# Altium integrated library Transistor.IntLib: 3457 symbols (part 61 of 78)
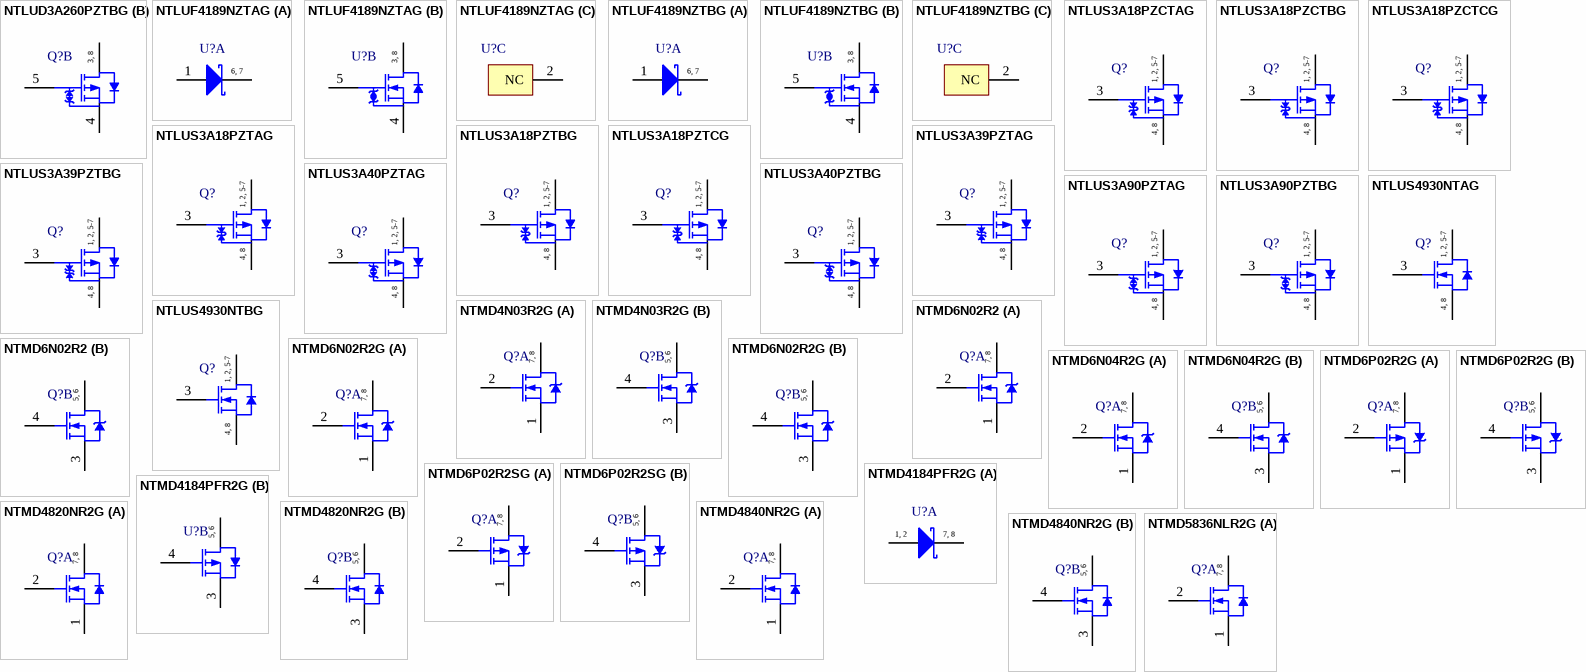
[diagram p154: symbols NTLUD3A260PZTBG to NTMD5836NLR2G]

## NTLUS3A90PZTAG
designator Q?
Power MOSFET, -20 V, -5.0 A, Cool Single P-Channel, ESD, 6-Pin UDFN, Pb-Free, Tape and Reel; Manufacturer: On Semiconductor; PartNumber: NTLUS3A90PZTAG; Channel Polarity: P Channel; Ciss Typ (pF): 950; Coss Typ (pF): 90; Crss Typ (pF): 85; ID Max (A): 5; Qrr Typ (nC): 6; V(BR)DSS Min (V): 20; VGS Max (V): 8; VGS(th) Max (V): 1; DatasheetVersion: Rev. 2; PackageVersion: Rev. O, 10/2008; PackageReference: UDFN-6-517AU-01; PackageDescription: 6-Pin Small Outline No-Lead, Body 1.6 x 1.6 mm, Pitch 0.5 mm; Configuration: Single; Package Type: UDFN-6; Packing: Tape and Reel; RoHS: Pb-Free; Mounting Technology: Surface Mount; ComponentLink1Description: Manufacturer URL; ComponentLink1URL: http://www.onsemi.com/; ComponentLink2Description: Datasheet; ComponentLink2URL: http://www.onsemi.com/pub_link/Collateral/NTLUS3A90PZ-D.PDF; ComponentLink3Description: Package Specification; ComponentLink3URL: http://www.onsemi.com/pub_link/Collateral/517AU.PDF
footprint ONSC-UDFN-6-517AU-01_V (SON, 6-Leads, Body 1.6x1.6mm, Pitch 0.5mm)
pins: 1 D, 2 D, 3 G, 4 S, 5 D, 6 D, 7 D, 8 S
text: 1, 2, 5-7; 4, 8

## NTLUS3A90PZTBG
designator Q?
Power MOSFET, -20 V, -5.0 A, Cool Single P-Channel, ESD, 6-Pin UDFN, Pb-Free, Tape and Reel; Manufacturer: On Semiconductor; PartNumber: NTLUS3A90PZTBG; Channel Polarity: P Channel; Ciss Typ (pF): 950; Coss Typ (pF): 90; Crss Typ (pF): 85; ID Max (A): 5; Qrr Typ (nC): 6; V(BR)DSS Min (V): 20; VGS Max (V): 8; VGS(th) Max (V): 1; DatasheetVersion: Rev. 2; PackageVersion: Rev. O, 10/2008; PackageReference: UDFN-6-517AU-01; PackageDescription: 6-Pin Small Outline No-Lead, Body 1.6 x 1.6 mm, Pitch 0.5 mm; Configuration: Single; Package Type: UDFN-6; Packing: Tape and Reel; RoHS: Pb-Free; Mounting Technology: Surface Mount; ComponentLink1Description: Manufacturer URL; ComponentLink1URL: http://www.onsemi.com/; ComponentLink2Description: Datasheet; ComponentLink2URL: http://www.onsemi.com/pub_link/Collateral/NTLUS3A90PZ-D.PDF; ComponentLink3Description: Package Specification; ComponentLink3URL: http://www.onsemi.com/pub_link/Collateral/517AU.PDF
footprint ONSC-UDFN-6-517AU-01_V (SON, 6-Leads, Body 1.6x1.6mm, Pitch 0.5mm)
pins: 1 D, 2 D, 3 G, 4 S, 5 D, 6 D, 7 D, 8 S
text: 1, 2, 5-7; 4, 8

## NTLUS4930NTAG
designator Q?
Power MOSFET, 30 V, 6.1 A, Single N-Channel, 6-Pin UDFN, Pb-Free, Tape and Reel; Manufacturer: On Semiconductor; PartNumber: NTLUS4930NTAG; Channel Polarity: N Channel; Ciss Typ (pF): 476; Coss Typ (pF): 197; Crss Typ (pF): 100; Qrr Typ (nC): 5.4; V(BR)DSS Min (V): 30; VGS Max (V): 20; VGS(th) Max (V): 2.2; DatasheetVersion: Rev. 1; PackageVersion: Rev. A, 02/2010; PackageReference: UDFN-6-517BG-01; PackageDescription: 6-Pin Small Outline No-Lead, Body 2 x 2 mm, Pitch 0.65 mm; Configuration: Single; Package Type: UDFN-6; Packing: Tape and Reel; RoHS: Pb-Free; Mounting Technology: Surface Mount; ComponentLink1Description: Manufacturer URL; ComponentLink1URL: http://www.onsemi.com/; ComponentLink2Description: Datasheet; ComponentLink2URL: http://www.onsemi.com/pub_link/Collateral/NTLUS4930N-D.PDF; ComponentLink3Description: Package Specification; ComponentLink3URL: http://www.onsemi.com/pub_link/Collateral/517BG.PDF
footprint ONSC-UDFN-6-517BG-01_V (SON, 6-Leads, Body 2x2mm, Pitch 0.65mm)
pins: 1 D, 2 D, 3 G, 4 S, 5 D, 6 D, 7 D, 8 S
text: 1, 2, 5-7; 4, 8

## NTLUS4930NTBG
designator Q?
Power MOSFET, 30 V, 6.1 A, Single N-Channel, 6-Pin UDFN, Pb-Free, Tape and Reel; Manufacturer: On Semiconductor; PartNumber: NTLUS4930NTBG; Channel Polarity: N Channel; Ciss Typ (pF): 476; Coss Typ (pF): 197; Crss Typ (pF): 100; Qrr Typ (nC): 5.4; V(BR)DSS Min (V): 30; VGS Max (V): 20; VGS(th) Max (V): 2.2; DatasheetVersion: Rev. 1; PackageVersion: Rev. A, 02/2010; PackageReference: UDFN-6-517BG-01; PackageDescription: 6-Pin Small Outline No-Lead, Body 2 x 2 mm, Pitch 0.65 mm; Configuration: Single; Package Type: UDFN-6; Packing: Tape and Reel; RoHS: Pb-Free; Mounting Technology: Surface Mount; ComponentLink1Description: Manufacturer URL; ComponentLink1URL: http://www.onsemi.com/; ComponentLink2Description: Datasheet; ComponentLink2URL: http://www.onsemi.com/pub_link/Collateral/NTLUS4930N-D.PDF; ComponentLink3Description: Package Specification; ComponentLink3URL: http://www.onsemi.com/pub_link/Collateral/517BG.PDF
footprint ONSC-UDFN-6-517BG-01_V (SON, 6-Leads, Body 2x2mm, Pitch 0.65mm)
pins: 1 D, 2 D, 3 G, 4 S, 5 D, 6 D, 7 D, 8 S
text: 1, 2, 5-7; 4, 8

## NTMD4N03R2G
designator Q?
Power MOSFET, 4 A, 30 V, N-Channel Dual, 8-Pin SOIC, Pb-Free, Tape and Reel; Manufacturer: On Semiconductor; PartNumber: NTMD4N03R2G; Channel Polarity: N Channel; Ciss Typ (pF): 285; Coss Typ (pF): 95; Crss Typ (pF): 35; ID Max (A): 4; PD Max (W): 2; Qrr Typ (nC): 8; V(BR)DSS Min (V): 30; VGS Max (V): 20; VGS(th) Max (V): 3; DatasheetVersion: Rev. 4; PackageVersion: Rev. AK, 02/2011; PackageReference: SOIC-8-751-07; PackageDescription: 8-Pin Small Outline Integrated Circuit, Body 4.9 x 3.9 mm, Pitch 1.27 mm; Configuration: Dual; Package Type: SOIC-8; Packing: Tape and Reel; RoHS: Pb-Free; Mounting Technology: Surface Mount; ComponentLink1Description: Manufacturer URL; ComponentLink1URL: http://www.onsemi.com/; ComponentLink2Description: Datasheet; ComponentLink2URL: http://www.onsemi.com/pub_link/Collateral/NTMD4N03R2-D.PDF; ComponentLink3Description: Package Specification; ComponentLink3URL: http://www.onsemi.com/pub_link/Collateral/751-07.PDF
footprint ONSC-SOIC-8-751-07_V (SOIC, 8-Leads, Body 4.9x3.9mm, Pitch 1.27mm)
part A pins: 1 S1, 2 G1, 7 D1, 8 D1
part B pins: 3 S2, 4 G2, 5 D2, 6 D2
part A text: 7, 8
part B text: 5, 6

## NTMD6N02R2
designator Q?
Power MOSFET, 6 A, 20 V, Dual N-Channel Enhancement Mode, 8-Pin SOIC, Pb-Free, Tape and Reel; Manufacturer: On Semiconductor; PartNumber: NTMD6N02R2; Channel Polarity: N Channel; Ciss Typ (pF): 785; Coss Typ (pF): 260; Crss Typ (pF): 75; ID Max (A): 6; Qrr Typ (nC): 20; VGS Max (V): 12; VGS(th) Max (V): 1.2; DatasheetVersion: Rev. 3; PackageVersion: Rev. AK, 02/2011; PackageReference: SOIC-8-751-07; PackageDescription: 8-Pin Small Outline Integrated Circuit, Body 4.9 x 3.9 mm, Pitch 1.27 mm; Configuration: Dual; Package Type: SOIC-8; Packing: Tape and Reel; RoHS: Pb-Free; V(BR)DSS Min (V): 20; Mounting Technology: Surface Mount; ComponentLink1Description: Manufacturer URL; ComponentLink1URL: http://www.onsemi.com/; ComponentLink2Description: Datasheet; ComponentLink2URL: http://www.onsemi.com/pub_link/Collateral/NTMD6N02R2-D.PDF; ComponentLink3Description: Package Specification; ComponentLink3URL: http://www.onsemi.com/pub_link/Collateral/751-07.PDF
footprint ONSC-SOIC-8-751-07_V (SOIC, 8-Leads, Body 4.9x3.9mm, Pitch 1.27mm)
part A pins: 1 S1, 2 G1, 7 D1, 8 D1
part B pins: 3 S2, 4 G2, 5 D2, 6 D2
part A text: 7, 8
part B text: 5, 6

## NTMD6N02R2G
designator Q?
Power MOSFET, 6 A, 20 V, Dual N-Channel Enhancement Mode, 8-Pin SOIC, Pb-Free, Tape and Reel; Manufacturer: On Semiconductor; PartNumber: NTMD6N02R2G; Channel Polarity: N Channel; Ciss Typ (pF): 785; Coss Typ (pF): 260; Crss Typ (pF): 75; ID Max (A): 6; Qrr Typ (nC): 20; VGS Max (V): 12; VGS(th) Max (V): 1.2; DatasheetVersion: Rev. 3; PackageVersion: Rev. AK, 02/2011; PackageReference: SOIC-8-751-07; PackageDescription: 8-Pin Small Outline Integrated Circuit, Body 4.9 x 3.9 mm, Pitch 1.27 mm; Configuration: Dual; Package Type: SOIC-8; Packing: Tape and Reel; RoHS: Pb-Free; V(BR)DSS Min (V): 20; Mounting Technology: Surface Mount; ComponentLink1Description: Manufacturer URL; ComponentLink1URL: http://www.onsemi.com/; ComponentLink2Description: Datasheet; ComponentLink2URL: http://www.onsemi.com/pub_link/Collateral/NTMD6N02R2-D.PDF; ComponentLink3Description: Package Specification; ComponentLink3URL: http://www.onsemi.com/pub_link/Collateral/751-07.PDF
footprint ONSC-SOIC-8-751-07_V (SOIC, 8-Leads, Body 4.9x3.9mm, Pitch 1.27mm)
part A pins: 1 S1, 2 G1, 7 D1, 8 D1
part B pins: 3 S2, 4 G2, 5 D2, 6 D2
part A text: 7, 8
part B text: 5, 6

## NTMD6N04R2G
designator Q?
Power MOSFET, 40 V, 5.8 A, Dual N-Channel, 8-Pin SOIC, Pb-Free, Tape and Reel; Manufacturer: On Semiconductor; PartNumber: NTMD6N04R2G; Channel Polarity: N Channel; Ciss Typ (pF): 723; Coss Typ (pF): 156; Crss Typ (pF): 53; ID Max (A): 5.8; Qrr Typ (nC): 20; V(BR)DSS Min (V): 40; VGS(th) Max (V): 3; DatasheetVersion: Rev. 2; PackageVersion: Rev. AK, 02/2011; PackageReference: SOIC-8-751-07; PackageDescription: 8-Pin Small Outline Integrated Circuit, Body 4.9 x 3.9 mm, Pitch 1.27 mm; Configuration: Dual; Package Type: SOIC-8; Packing: Tape and Reel; RoHS: Pb-Free; VGS Max (V): 20; Mounting Technology: Surface Mount; ComponentLink1Description: Manufacturer URL; ComponentLink1URL: http://www.onsemi.com/; ComponentLink2Description: Datasheet; ComponentLink2URL: http://www.onsemi.com/pub_link/Collateral/NTMD6N04R2-D.PDF; ComponentLink3Description: Package Specification; ComponentLink3URL: http://www.onsemi.com/pub_link/Collateral/751-07.PDF
footprint ONSC-SOIC-8-751-07_V (SOIC, 8-Leads, Body 4.9x3.9mm, Pitch 1.27mm)
part A pins: 1 S1, 2 G1, 7 D1, 8 D1
part B pins: 3 S2, 4 G2, 5 D2, 6 D2
part A text: 7, 8
part B text: 5, 6

## NTMD6P02R2G
designator Q?
Power MOSFET, 6 A, 20 V, P-Channel SOIC-8, Dual, 8-Pin SOIC, Pb-Free, Tape and Reel; Manufacturer: On Semiconductor; PartNumber: NTMD6P02R2G; Channel Polarity: P Channel; Ciss Typ (pF): 1380; Coss Typ (pF): 515; Crss Typ (pF): 250; Qrr Typ (nC): 40; V(BR)DSS Min (V): 20; VGS Max (V): 12; VGS(th) Max (V): 1.2; DatasheetVersion: Rev. 4; PackageVersion: Rev. AK, 02/2011; PackageReference: SOIC-8-751-07; PackageDescription: 8-Pin Small Outline Integrated Circuit, Body 4.9 x 3.9 mm, Pitch 1.27 mm; Configuration: Dual; Package Type: SOIC-8; Packing: Tape and Reel; RoHS: Pb-Free; Mounting Technology: Surface Mount; ComponentLink1Description: Manufacturer URL; ComponentLink1URL: http://www.onsemi.com/; ComponentLink2Description: Datasheet; ComponentLink2URL: http://www.onsemi.com/pub_link/Collateral/NTMD6P02R2-D.PDF; ComponentLink3Description: Package Specification; ComponentLink3URL: http://www.onsemi.com/pub_link/Collateral/751-07.PDF
footprint ONSC-SOIC-8-751-07_V (SOIC, 8-Leads, Body 4.9x3.9mm, Pitch 1.27mm)
part A pins: 1 S1, 2 G1, 7 D1, 8 D1
part B pins: 3 S2, 4 G2, 5 D2, 6 D2
part A text: 7, 8
part B text: 5, 6

## NTMD6P02R2SG
designator Q?
Power MOSFET, 6 A, 20 V, P-Channel SOIC-8, Dual, 8-Pin SOIC, Pb-Free, Tape and Reel; Manufacturer: On Semiconductor; PartNumber: NTMD6P02R2SG; Channel Polarity: P Channel; Ciss Typ (pF): 1380; Coss Typ (pF): 515; Crss Typ (pF): 250; Qrr Typ (nC): 40; V(BR)DSS Min (V): 20; VGS Max (V): 12; VGS(th) Max (V): 1.2; DatasheetVersion: Rev. 4; PackageVersion: Rev. AK, 02/2011; PackageReference: SOIC-8-751-07; PackageDescription: 8-Pin Small Outline Integrated Circuit, Body 4.9 x 3.9 mm, Pitch 1.27 mm; Configuration: Dual; Package Type: SOIC-8; Packing: Tape and Reel; RoHS: Pb-Free; Mounting Technology: Surface Mount; ComponentLink1Description: Manufacturer URL; ComponentLink1URL: http://www.onsemi.com/; ComponentLink2Description: Datasheet; ComponentLink2URL: http://www.onsemi.com/pub_link/Collateral/NTMD6P02R2-D.PDF; ComponentLink3Description: Package Specification; ComponentLink3URL: http://www.onsemi.com/pub_link/Collateral/751-07.PDF
footprint ONSC-SOIC-8-751-07_V (SOIC, 8-Leads, Body 4.9x3.9mm, Pitch 1.27mm)
part A pins: 1 S1, 2 G1, 7 D1, 8 D1
part B pins: 3 S2, 4 G2, 5 D2, 6 D2
part A text: 7, 8
part B text: 5, 6

## NTMD4184PFR2G
designator U?
Power MOSFET and Schottky Diode, -30 V, -4 A, Single P-Channel with 20 V, 2.2 A, 8-Pin SOIC, Pb-Free, Tape and Reel; Manufacturer: On Semiconductor; PartNumber: NTMD4184PFR2G; Channel Polarity: P Channel; Ciss Typ (pF): 280; Configuration: with Schottky Diode; Coss Typ (pF): 80; Crss Typ (pF): 52; ID Max (A): 4; Qrr Typ (nC): 7.4; V(BR)DSS Min (V): 30; VGS Max (V): 20; VGS(th) Max (V): 3; DatasheetVersion: Rev. 0; PackageVersion: Rev. AK, 02/2011; PackageReference: SOIC-8-751-07; PackageDescription: 8-Pin Small Outline Integrated Circuit, Body 4.9 x 3.9 mm, Pitch 1.27 mm; Package Type: SOIC-8; Packing: Tape and Reel; RoHS: Pb-Free; Mounting Technology: Surface Mount; ComponentLink1Description: Manufacturer URL; ComponentLink1URL: http://www.onsemi.com/; ComponentLink2Description: Datasheet; ComponentLink2URL: http://www.onsemi.com/pub_link/Collateral/NTMD4184PF-D.PDF; ComponentLink3Description: Package Specification; ComponentLink3URL: http://www.onsemi.com/pub_link/Collateral/751-07.PDF
footprint ONSC-SOIC-8-751-07_V (SOIC, 8-Leads, Body 4.9x3.9mm, Pitch 1.27mm)
part A pins: 1 A, 2 A, 7 K, 8 K
part B pins: 3 S, 4 G, 5 D, 6 D
part A text: 1, 2; 7, 8
part B text: 5, 6

## NTMD4820NR2G
designator Q?
Power MOSFET, 30 V, 8 A, Dual N-Channel, 8-Pin SOIC, Pb-Free, Tape and Reel; Manufacturer: On Semiconductor; PartNumber: NTMD4820NR2G; Channel Polarity: N Channel; Ciss Typ (pF): 940; Coss Typ (pF): 225; Crss Typ (pF): 125; ID Max (A): 8; V(BR)DSS Min (V): 30; VGS Max (V): 20; VGS(th) Max (V): 3; DatasheetVersion: Rev. 2; PackageVersion: Rev. AK, 02/2011; PackageReference: SOIC-8-751-07; PackageDescription: 8-Pin Small Outline Integrated Circuit, Body 4.9 x 3.9 mm, Pitch 1.27 mm; Configuration: Dual; Package Type: SOIC-8; Packing: Tape and Reel; Qrr Typ (nC): 8; RoHS: Pb-Free; Mounting Technology: Surface Mount; ComponentLink1Description: Manufacturer URL; ComponentLink1URL: http://www.onsemi.com/; ComponentLink2Description: Datasheet; ComponentLink2URL: http://www.onsemi.com/pub_link/Collateral/NTMD4820N-D.PDF; ComponentLink3Description: Package Specification; ComponentLink3URL: http://www.onsemi.com/pub_link/Collateral/751-07.PDF
footprint ONSC-SOIC-8-751-07_V (SOIC, 8-Leads, Body 4.9x3.9mm, Pitch 1.27mm)
part A pins: 1 S1, 2 G1, 7 D1, 8 D1
part B pins: 3 S2, 4 G2, 5 D2, 6 D2
part A text: 7, 8
part B text: 5, 6

## NTMD4840NR2G
designator Q?
Power MOSFET, 30 V, 7.5 A, Dual N-Channel, 8-Pin SOIC, Pb-Free, Tape and Reel; Manufacturer: On Semiconductor; PartNumber: NTMD4840NR2G; Channel Polarity: N Channel; Ciss Typ (pF): 520; Coss Typ (pF): 140; Crss Typ (pF): 70; ID Max (A): 7.5; Qrr Typ (nC): 6; V(BR)DSS Min (V): 30; VGS Max (V): 20; VGS(th) Max (V): 3; DatasheetVersion: Rev. 1; PackageVersion: Rev. AK, 02/2011; PackageReference: SOIC-8-751-07; PackageDescription: 8-Pin Small Outline Integrated Circuit, Body 4.9 x 3.9 mm, Pitch 1.27 mm; Configuration: Dual; Package Type: SOIC-8; Packing: Tape and Reel; RoHS: Pb-Free; Mounting Technology: Surface Mount; ComponentLink1Description: Manufacturer URL; ComponentLink1URL: http://www.onsemi.com/; ComponentLink2Description: Datasheet; ComponentLink2URL: http://www.onsemi.com/pub_link/Collateral/NTMD4840N-D.PDF; ComponentLink3Description: Package Specification; ComponentLink3URL: http://www.onsemi.com/pub_link/Collateral/751-07.PDF
footprint ONSC-SOIC-8-751-07_V (SOIC, 8-Leads, Body 4.9x3.9mm, Pitch 1.27mm)
part A pins: 1 S1, 2 G1, 7 D1, 8 D1
part B pins: 3 S2, 4 G2, 5 D2, 6 D2
part A text: 7, 8
part B text: 5, 6

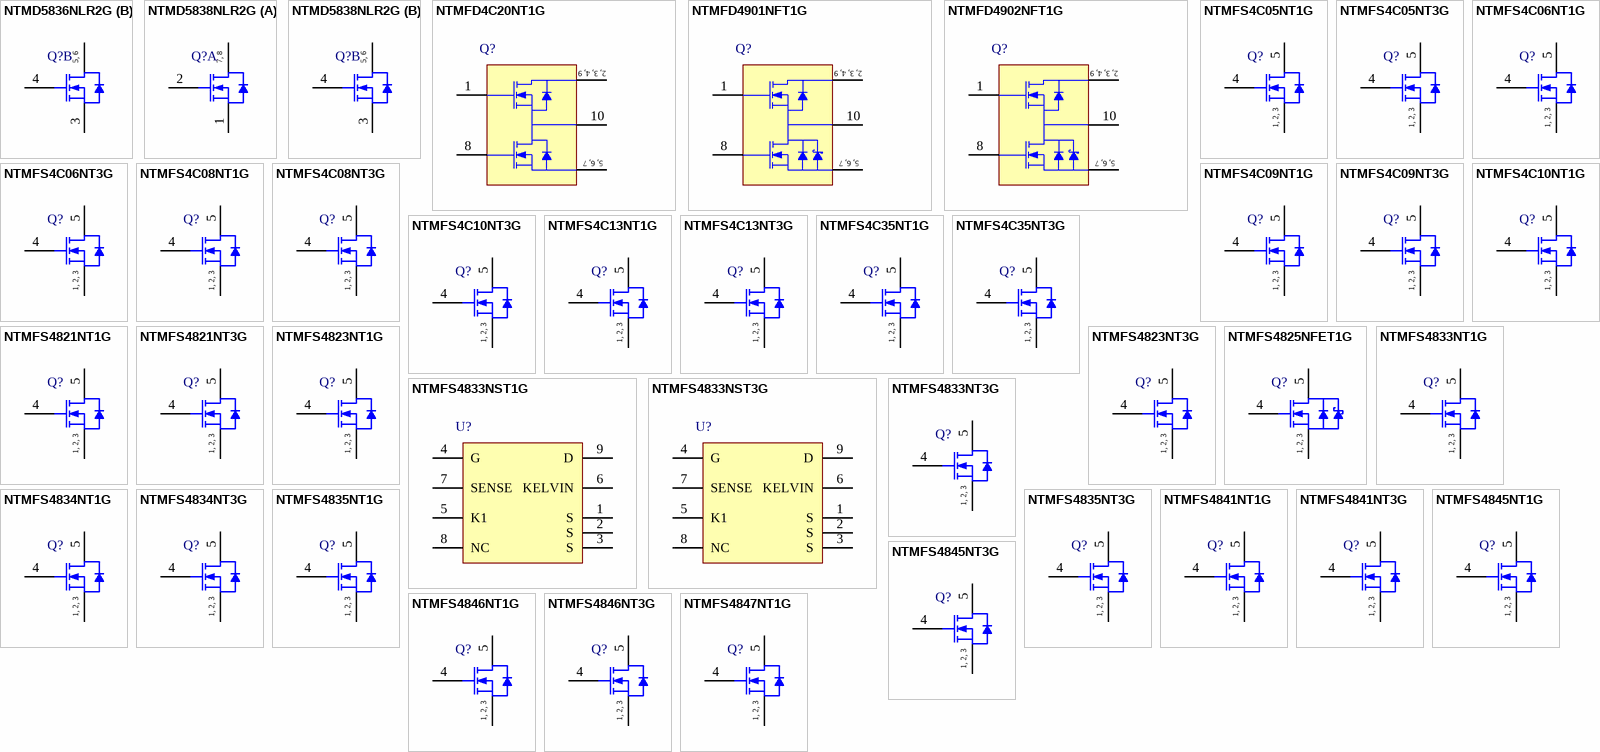
[diagram p74: symbols NTMD5836NLR2G to NTMFS4847NT1G]

## NTMD5836NLR2G
designator Q?
Power MOSFET, 40 V, Dual N-Channel, 8-Pin SOIC, Pb-Free, Tape and Reel; Manufacturer: On Semiconductor; PartNumber: NTMD5836NLR2G; Channel Polarity: N Channel; V(BR)DSS Min (V): 40; VGS Max (V): 20; VGS(th) Max (V): 3; DatasheetVersion: Rev. 1; PackageVersion: Rev. AK, 02/2011; PackageReference: SOIC-8-751-07; PackageDescription: 8-Pin Small Outline Integrated Circuit, Body 4.9 x 3.9 mm, Pitch 1.27 mm; Configuration: Dual; Package Type: SOIC-8; Packing: Tape and Reel; RoHS: Pb-Free; Mounting Technology: Surface Mount; ComponentLink1Description: Manufacturer URL; ComponentLink1URL: http://www.onsemi.com/; ComponentLink2Description: Datasheet; ComponentLink2URL: http://www.onsemi.com/pub_link/Collateral/NTMD5836NL-D.PDF; ComponentLink3Description: Package Specification; ComponentLink3URL: http://www.onsemi.com/pub_link/Collateral/751-07.PDF
footprint ONSC-SOIC-8-751-07_V (SOIC, 8-Leads, Body 4.9x3.9mm, Pitch 1.27mm)
part A pins: 1 S1, 2 G1, 7 D1, 8 D1
part B pins: 3 S2, 4 G2, 5 D2, 6 D2
part A text: 7, 8
part B text: 5, 6

## NTMD5838NLR2G
designator Q?
Power MOSFET, 40 V, 8.9 A, 20 mOhm, Dual N-Channel, 8-Pin SOIC, Pb-Free, Tape and Reel; Manufacturer: On Semiconductor; PartNumber: NTMD5838NLR2G; Channel Polarity: N Channel; Ciss Typ (pF): 785; Coss Typ (pF): 123; Crss Typ (pF): 90; ID Max (A): 8.9; Qrr Typ (nC): 10; V(BR)DSS Min (V): 40; VGS Max (V): 20; VGS(th) Max (V): 3; DatasheetVersion: Rev. 1; PackageVersion: Rev. AK, 02/2011; PackageReference: SOIC-8-751-07; PackageDescription: 8-Pin Small Outline Integrated Circuit, Body 4.9 x 3.9 mm, Pitch 1.27 mm; Configuration: Dual; Package Type: SOIC-8; Packing: Tape and Reel; RoHS: Pb-Free; Mounting Technology: Surface Mount; ComponentLink1Description: Manufacturer URL; ComponentLink1URL: http://www.onsemi.com/; ComponentLink2Description: Datasheet; ComponentLink2URL: http://www.onsemi.com/pub_link/Collateral/NTMD5838NL-D.PDF; ComponentLink3Description: Package Specification; ComponentLink3URL: http://www.onsemi.com/pub_link/Collateral/751-07.PDF
footprint ONSC-SOIC-8-751-07_V (SOIC, 8-Leads, Body 4.9x3.9mm, Pitch 1.27mm)
part A pins: 1 S1, 2 G1, 7 D1, 8 D1
part B pins: 3 S2, 4 G2, 5 D2, 6 D2
part A text: 7, 8
part B text: 5, 6

## NTMFD4C20NT1G
designator Q?
Dual N-Channel Power MOSFET, 30 V, High Side 18 A / Low Side 27 A, N-Channel, 8-Pin DFN, Pb-Free, Tape and Reel; Manufacturer: On Semiconductor; PartNumber: NTMFD4C20NT1G; Channel Polarity: N Channel; V(BR)DSS Min (V): 30; VGS Max (V): 20; VGS(th) Max (V): 2.1; DatasheetVersion: Rev. 0; PackageVersion: Rev. C, 04/2012; PackageReference: DFN-8-506BX; PackageDescription: 8-Pin Small Outline No-Lead, Body 4.8 x 5.8 mm, Pitch 1.27 mm; Configuration: Dual; Package Type: SO-8FL Dual / DFN-8; Packing: Tape and Reel; RoHS: Pb-Free; Mounting Technology: Surface Mount; ComponentLink1Description: Manufacturer URL; ComponentLink1URL: http://www.onsemi.com/; ComponentLink2Description: Datasheet; ComponentLink2URL: http://www.onsemi.com/pub_link/Collateral/NTMFD4C20N-D.PDF; ComponentLink3Description: Package Specification; ComponentLink3URL: http://www.onsemi.com/pub_link/Collateral/506Bx.PDF
footprint ONSC-DFN-8-506BX_V (SON, 8-Leads, Body 5.8x4.8mm, Pitch 1.27mm)
pins: 1 G1, 2 D1, 3 D1, 4 D1, 5 S2, 6 S2, 7 S2, 8 G2, 9 D1, 10 S1/D2
text: 2, 3, 4, 9; 5, 6, 7

## NTMFD4901NFT1G
designator Q?
Dual N-Channel Power MOSFET with Integrated Schottky, 30 V, High Side 18 A / Low Side 30 A, 8-Pin DFN, Pb-Free, Tape and Reel; Manufacturer: On Semiconductor; PartNumber: NTMFD4901NFT1G; Channel Polarity: N Channel; V(BR)DSS Min (V): 30; VGS Max (V): 20; VGS(th) Max (V): 2.2; DatasheetVersion: Rev. 3; PackageVersion: Rev. C, 04/2012; PackageReference: DFN-8-506BX; PackageDescription: 8-Pin Small Outline No-Lead, Body 4.8 x 5.8 mm, Pitch 1.27 mm; Configuration: Dual; Package Type: SO-8FL Dual / DFN-8; Packing: Tape and Reel; RoHS: Pb-Free; Mounting Technology: Surface Mount; ComponentLink1Description: Manufacturer URL; ComponentLink1URL: http://www.onsemi.com/; ComponentLink2Description: Datasheet; ComponentLink2URL: http://www.onsemi.com/pub_link/Collateral/NTMFD4901NF-D.PDF; ComponentLink3Description: Package Specification; ComponentLink3URL: http://www.onsemi.com/pub_link/Collateral/506Bx.PDF
footprint ONSC-DFN-8-506BX_V (SON, 8-Leads, Body 5.8x4.8mm, Pitch 1.27mm)
pins: 1 G1, 2 D1, 3 D1, 4 D1, 5 S2, 6 S2, 7 S2, 8 G2, 9 D1, 10 S1/D2
text: 2, 3, 4, 9; 5, 6, 7

## NTMFD4902NFT1G
designator Q?
Dual N-Channel Power MOSFET with Integrated Schottky, 30 V, High Side 18 A / Low Side 23 A, 8-Pin DFN, Pb-Free, Tape and Reel; Manufacturer: On Semiconductor; PartNumber: NTMFD4902NFT1G; Channel Polarity: N Channel; V(BR)DSS Min (V): 30; VGS Max (V): 20; VGS(th) Max (V): 2.2; DatasheetVersion: Rev. 2; PackageVersion: Rev. C, 04/2012; PackageReference: DFN-8-506BX; PackageDescription: 8-Pin Small Outline No-Lead, Body 4.8 x 5.8 mm, Pitch 1.27 mm; Configuration: Dual; Package Type: SO-8FL Dual / DFN-8; Packing: Tape and Reel; RoHS: Pb-Free; Mounting Technology: Surface Mount; ComponentLink1Description: Manufacturer URL; ComponentLink1URL: http://www.onsemi.com/; ComponentLink2Description: Datasheet; ComponentLink2URL: http://www.onsemi.com/pub_link/Collateral/NTMFD4902NF-D.PDF; ComponentLink3Description: Package Specification; ComponentLink3URL: http://www.onsemi.com/pub_link/Collateral/506Bx.PDF
footprint ONSC-DFN-8-506BX_V (SON, 8-Leads, Body 5.8x4.8mm, Pitch 1.27mm)
pins: 1 G1, 2 D1, 3 D1, 4 D1, 5 S2, 6 S2, 7 S2, 8 G2, 9 D1, 10 S1/D2
text: 2, 3, 4, 9; 5, 6, 7

## NTMFS4C05NT1G
designator Q?
Power MOSFET, 30 V, 78 A, Single N-Channel, 5-Pin DFN, Pb-Free, Tape and Reel; Manufacturer: On Semiconductor; PartNumber: NTMFS4C05NT1G; Channel Polarity: N Channel; Ciss Typ (pF): 1972; Coss Typ (pF): 1215; Crss Typ (pF): 59; ID Max (A): 78; Qrr Typ (nC): 30.2; V(BR)DSS Min (V): 30; VGS Max (V): 20; VGS(th) Max (V): 2.2; DatasheetVersion: Rev. 2; PackageVersion: Rev. H, 03/2013; PackageReference: DFN-5-488AA; PackageDescription: 5-Pin Small Outline No-Lead, Body 4.9 x 5.9 mm, Pitch 1.27 mm; Configuration: Single; Package Type: SO-8FL; Packing: Tape and Reel; RoHS: Pb-Free; Mounting Technology: Surface Mount; Code_JEDEC: MO-240A; ComponentLink1Description: Manufacturer URL; ComponentLink1URL: http://www.onsemi.com/; ComponentLink2Description: Datasheet; ComponentLink2URL: http://www.onsemi.com/pub_link/Collateral/NTMFS4C05N-D.PDF; ComponentLink3Description: Package Specification; ComponentLink3URL: http://www.onsemi.com/pub_link/Collateral/488AA.PDF
footprint ONSC-DFN-5-488AA_V (DFN, 5-Leads, Body 5.9x4.9mm, Pitch 1.27mm)
pins: 1 S, 2 S, 3 S, 4 G, 5 D
text: 1, 2, 3

## NTMFS4C05NT3G
designator Q?
Power MOSFET, 30 V, 78 A, Single N-Channel, 5-Pin DFN, Pb-Free, Tape and Reel; Manufacturer: On Semiconductor; PartNumber: NTMFS4C05NT3G; Channel Polarity: N Channel; Ciss Typ (pF): 1972; Coss Typ (pF): 1215; Crss Typ (pF): 59; ID Max (A): 78; Qrr Typ (nC): 30.2; V(BR)DSS Min (V): 30; VGS Max (V): 20; VGS(th) Max (V): 2.2; DatasheetVersion: Rev. 2; PackageVersion: Rev. H, 03/2013; PackageReference: DFN-5-488AA; PackageDescription: 5-Pin Small Outline No-Lead, Body 4.9 x 5.9 mm, Pitch 1.27 mm; Configuration: Single; Package Type: SO-8FL; Packing: Tape and Reel; RoHS: Pb-Free; Mounting Technology: Surface Mount; Code_JEDEC: MO-240A; ComponentLink1Description: Manufacturer URL; ComponentLink1URL: http://www.onsemi.com/; ComponentLink2Description: Datasheet; ComponentLink2URL: http://www.onsemi.com/pub_link/Collateral/NTMFS4C05N-D.PDF; ComponentLink3Description: Package Specification; ComponentLink3URL: http://www.onsemi.com/pub_link/Collateral/488AA.PDF
footprint ONSC-DFN-5-488AA_V (DFN, 5-Leads, Body 5.9x4.9mm, Pitch 1.27mm)
pins: 1 S, 2 S, 3 S, 4 G, 5 D
text: 1, 2, 3

## NTMFS4C06NT1G
designator Q?
Power MOSFET, 30 V, 69 A, Single N-Channel, 5-Pin DFN, Pb-Free, Tape and Reel; Manufacturer: On Semiconductor; PartNumber: NTMFS4C06NT1G; Channel Polarity: N Channel; Ciss Typ (pF): 1683; Coss Typ (pF): 841; Crss Typ (pF): 40; ID Max (A): 69; Qrr Typ (nC): 22; V(BR)DSS Min (V): 30; VGS Max (V): 20; VGS(th) Max (V): 2.1; DatasheetVersion: Rev. 2; PackageVersion: Rev. H, 03/2013; PackageReference: DFN-5-488AA; PackageDescription: 5-Pin Small Outline No-Lead, Body 4.9 x 5.9 mm, Pitch 1.27 mm; Configuration: Single; Package Type: SO-8FL; Packing: Tape and Reel; RoHS: Pb-Free; Mounting Technology: Surface Mount; Code_JEDEC: MO-240A; ComponentLink1Description: Manufacturer URL; ComponentLink1URL: http://www.onsemi.com/; ComponentLink2Description: Datasheet; ComponentLink2URL: http://www.onsemi.com/pub_link/Collateral/NTMFS4C06N-D.PDF; ComponentLink3Description: Package Specification; ComponentLink3URL: http://www.onsemi.com/pub_link/Collateral/488AA.PDF
footprint ONSC-DFN-5-488AA_V (DFN, 5-Leads, Body 5.9x4.9mm, Pitch 1.27mm)
pins: 1 S, 2 S, 3 S, 4 G, 5 D
text: 1, 2, 3

## NTMFS4C06NT3G
designator Q?
Power MOSFET, 30 V, 69 A, Single N-Channel, 5-Pin DFN, Pb-Free, Tape and Reel; Manufacturer: On Semiconductor; PartNumber: NTMFS4C06NT3G; Channel Polarity: N Channel; Ciss Typ (pF): 1683; Coss Typ (pF): 841; Crss Typ (pF): 40; ID Max (A): 69; Qrr Typ (nC): 22; V(BR)DSS Min (V): 30; VGS Max (V): 20; VGS(th) Max (V): 2.1; DatasheetVersion: Rev. 2; PackageVersion: Rev. H, 03/2013; PackageReference: DFN-5-488AA; PackageDescription: 5-Pin Small Outline No-Lead, Body 4.9 x 5.9 mm, Pitch 1.27 mm; Configuration: Single; Package Type: SO-8FL; Packing: Tape and Reel; RoHS: Pb-Free; Mounting Technology: Surface Mount; Code_JEDEC: MO-240A; ComponentLink1Description: Manufacturer URL; ComponentLink1URL: http://www.onsemi.com/; ComponentLink2Description: Datasheet; ComponentLink2URL: http://www.onsemi.com/pub_link/Collateral/NTMFS4C06N-D.PDF; ComponentLink3Description: Package Specification; ComponentLink3URL: http://www.onsemi.com/pub_link/Collateral/488AA.PDF
footprint ONSC-DFN-5-488AA_V (DFN, 5-Leads, Body 5.9x4.9mm, Pitch 1.27mm)
pins: 1 S, 2 S, 3 S, 4 G, 5 D
text: 1, 2, 3

## NTMFS4C08NT1G
designator Q?
Power MOSFET, 30 V, 52 A, Single N-Channel, 5-Pin DFN, Pb-Free, Tape and Reel; Manufacturer: On Semiconductor; PartNumber: NTMFS4C08NT1G; Channel Polarity: N Channel; Ciss Typ (pF): 1113; Coss Typ (pF): 702; Crss Typ (pF): 39; ID Max (A): 52; Qrr Typ (nC): 15.3; V(BR)DSS Min (V): 30; VGS Max (V): 20; VGS(th) Max (V): 2.1; DatasheetVersion: Rev. 1; PackageVersion: Rev. H, 03/2013; PackageReference: DFN-5-488AA; PackageDescription: 5-Pin Small Outline No-Lead, Body 4.9 x 5.9 mm, Pitch 1.27 mm; Configuration: Single; Package Type: SO-8FL; Packing: Tape and Reel; RoHS: Pb-Free; Mounting Technology: Surface Mount; Code_JEDEC: MO-240A; ComponentLink1Description: Manufacturer URL; ComponentLink1URL: http://www.onsemi.com/; ComponentLink2Description: Datasheet; ComponentLink2URL: http://www.onsemi.com/pub_link/Collateral/NTMFS4C08N-D.PDF; ComponentLink3Description: Package Specification; ComponentLink3URL: http://www.onsemi.com/pub_link/Collateral/488AA.PDF
footprint ONSC-DFN-5-488AA_V (DFN, 5-Leads, Body 5.9x4.9mm, Pitch 1.27mm)
pins: 1 S, 2 S, 3 S, 4 G, 5 D
text: 1, 2, 3

## NTMFS4C08NT3G
designator Q?
Power MOSFET, 30 V, 52 A, Single N-Channel, 5-Pin DFN, Pb-Free, Tape and Reel; Manufacturer: On Semiconductor; PartNumber: NTMFS4C08NT3G; Channel Polarity: N Channel; Ciss Typ (pF): 1113; Coss Typ (pF): 702; Crss Typ (pF): 39; ID Max (A): 52; Qrr Typ (nC): 15.3; V(BR)DSS Min (V): 30; VGS Max (V): 20; VGS(th) Max (V): 2.1; DatasheetVersion: Rev. 1; PackageVersion: Rev. H, 03/2013; PackageReference: DFN-5-488AA; PackageDescription: 5-Pin Small Outline No-Lead, Body 4.9 x 5.9 mm, Pitch 1.27 mm; Configuration: Single; Package Type: SO-8FL; Packing: Tape and Reel; RoHS: Pb-Free; Mounting Technology: Surface Mount; Code_JEDEC: MO-240A; ComponentLink1Description: Manufacturer URL; ComponentLink1URL: http://www.onsemi.com/; ComponentLink2Description: Datasheet; ComponentLink2URL: http://www.onsemi.com/pub_link/Collateral/NTMFS4C08N-D.PDF; ComponentLink3Description: Package Specification; ComponentLink3URL: http://www.onsemi.com/pub_link/Collateral/488AA.PDF
footprint ONSC-DFN-5-488AA_V (DFN, 5-Leads, Body 5.9x4.9mm, Pitch 1.27mm)
pins: 1 S, 2 S, 3 S, 4 G, 5 D
text: 1, 2, 3

## NTMFS4C09NT1G
designator Q?
Power MOSFET, 30 V, 52 A, Single N-Channel, 5-Pin DFN, Pb-Free, Tape and Reel; Manufacturer: On Semiconductor; PartNumber: NTMFS4C09NT1G; Channel Polarity: N Channel; Ciss Typ (pF): 1252; Coss Typ (pF): 610; Crss Typ (pF): 126; ID Max (A): 52; Qrr Typ (nC): 15; V(BR)DSS Min (V): 30; VGS Max (V): 20; VGS(th) Max (V): 2.1; DatasheetVersion: Rev. 1; PackageVersion: Rev. H, 03/2013; PackageReference: DFN-5-488AA; PackageDescription: 5-Pin Small Outline No-Lead, Body 4.9 x 5.9 mm, Pitch 1.27 mm; Configuration: Single; Package Type: SO-8FL; Packing: Tape and Reel; RoHS: Pb-Free; Mounting Technology: Surface Mount; Code_JEDEC: MO-240A; ComponentLink1Description: Manufacturer URL; ComponentLink1URL: http://www.onsemi.com/; ComponentLink2Description: Datasheet; ComponentLink2URL: http://www.onsemi.com/pub_link/Collateral/NTMFS4C09N-D.PDF; ComponentLink3Description: Package Specification; ComponentLink3URL: http://www.onsemi.com/pub_link/Collateral/488AA.PDF
footprint ONSC-DFN-5-488AA_V (DFN, 5-Leads, Body 5.9x4.9mm, Pitch 1.27mm)
pins: 1 S, 2 S, 3 S, 4 G, 5 D
text: 1, 2, 3

## NTMFS4C09NT3G
designator Q?
Power MOSFET, 30 V, 52 A, Single N-Channel, 5-Pin DFN, Pb-Free, Tape and Reel; Manufacturer: On Semiconductor; PartNumber: NTMFS4C09NT3G; Channel Polarity: N Channel; Ciss Typ (pF): 1252; Coss Typ (pF): 610; Crss Typ (pF): 126; ID Max (A): 52; Qrr Typ (nC): 15; V(BR)DSS Min (V): 30; VGS Max (V): 20; VGS(th) Max (V): 2.1; DatasheetVersion: Rev. 1; PackageVersion: Rev. H, 03/2013; PackageReference: DFN-5-488AA; PackageDescription: 5-Pin Small Outline No-Lead, Body 4.9 x 5.9 mm, Pitch 1.27 mm; Configuration: Single; Package Type: SO-8FL; Packing: Tape and Reel; RoHS: Pb-Free; Mounting Technology: Surface Mount; Code_JEDEC: MO-240A; ComponentLink1Description: Manufacturer URL; ComponentLink1URL: http://www.onsemi.com/; ComponentLink2Description: Datasheet; ComponentLink2URL: http://www.onsemi.com/pub_link/Collateral/NTMFS4C09N-D.PDF; ComponentLink3Description: Package Specification; ComponentLink3URL: http://www.onsemi.com/pub_link/Collateral/488AA.PDF
footprint ONSC-DFN-5-488AA_V (DFN, 5-Leads, Body 5.9x4.9mm, Pitch 1.27mm)
pins: 1 S, 2 S, 3 S, 4 G, 5 D
text: 1, 2, 3

## NTMFS4C10NT1G
designator Q?
Power MOSFET, 30 V, 46 A, Single N-Channel, 5-Pin DFN, Pb-Free, Tape and Reel; Manufacturer: On Semiconductor; PartNumber: NTMFS4C10NT1G; Channel Polarity: N Channel; Ciss Typ (pF): 987; Coss Typ (pF): 574; Crss Typ (pF): 162; ID Max (A): 46; Qrr Typ (nC): 13.7; V(BR)DSS Min (V): 30; VGS Max (V): 20; VGS(th) Max (V): 2.2; DatasheetVersion: Rev. 3; PackageVersion: Rev. H, 03/2013; PackageReference: DFN-5-488AA; PackageDescription: 5-Pin Small Outline No-Lead, Body 4.9 x 5.9 mm, Pitch 1.27 mm; Configuration: Single; Package Type: SO-8FL; Packing: Tape and Reel; RoHS: Pb-Free; Mounting Technology: Surface Mount; Code_JEDEC: MO-240A; ComponentLink1Description: Manufacturer URL; ComponentLink1URL: http://www.onsemi.com/; ComponentLink2Description: Datasheet; ComponentLink2URL: http://www.onsemi.com/pub_link/Collateral/NTMFS4C10N-D.PDF; ComponentLink3Description: Package Specification; ComponentLink3URL: http://www.onsemi.com/pub_link/Collateral/488AA.PDF
footprint ONSC-DFN-5-488AA_V (DFN, 5-Leads, Body 5.9x4.9mm, Pitch 1.27mm)
pins: 1 S, 2 S, 3 S, 4 G, 5 D
text: 1, 2, 3

## NTMFS4C10NT3G
designator Q?
Power MOSFET, 30 V, 46 A, Single N-Channel, 5-Pin DFN, Pb-Free, Tape and Reel; Manufacturer: On Semiconductor; PartNumber: NTMFS4C10NT3G; Channel Polarity: N Channel; Ciss Typ (pF): 987; Coss Typ (pF): 574; Crss Typ (pF): 162; ID Max (A): 46; Qrr Typ (nC): 13.7; V(BR)DSS Min (V): 30; VGS Max (V): 20; VGS(th) Max (V): 2.2; DatasheetVersion: Rev. 3; PackageVersion: Rev. H, 03/2013; PackageReference: DFN-5-488AA; PackageDescription: 5-Pin Small Outline No-Lead, Body 4.9 x 5.9 mm, Pitch 1.27 mm; Configuration: Single; Package Type: SO-8FL; Packing: Tape and Reel; RoHS: Pb-Free; Mounting Technology: Surface Mount; Code_JEDEC: MO-240A; ComponentLink1Description: Manufacturer URL; ComponentLink1URL: http://www.onsemi.com/; ComponentLink2Description: Datasheet; ComponentLink2URL: http://www.onsemi.com/pub_link/Collateral/NTMFS4C10N-D.PDF; ComponentLink3Description: Package Specification; ComponentLink3URL: http://www.onsemi.com/pub_link/Collateral/488AA.PDF
footprint ONSC-DFN-5-488AA_V (DFN, 5-Leads, Body 5.9x4.9mm, Pitch 1.27mm)
pins: 1 S, 2 S, 3 S, 4 G, 5 D
text: 1, 2, 3

## NTMFS4C13NT1G
designator Q?
Power MOSFET, 30 V, 38 A, Single N-Channel, 5-Pin DFN, Pb-Free, Tape and Reel; Manufacturer: On Semiconductor; PartNumber: NTMFS4C13NT1G; Channel Polarity: N Channel; Ciss Typ (pF): 770; Coss Typ (pF): 443; Crss Typ (pF): 127; ID Max (A): 38; Qrr Typ (nC): 9.7; V(BR)DSS Min (V): 30; VGS Max (V): 20; VGS(th) Max (V): 2.1; DatasheetVersion: Rev. 1; PackageVersion: Rev. H, 03/2013; PackageReference: DFN-5-488AA; PackageDescription: 5-Pin Small Outline No-Lead, Body 4.9 x 5.9 mm, Pitch 1.27 mm; Configuration: Single; Package Type: SO-8FL; Packing: Tape and Reel; RoHS: Pb-Free; Mounting Technology: Surface Mount; Code_JEDEC: MO-240A; ComponentLink1Description: Manufacturer URL; ComponentLink1URL: http://www.onsemi.com/; ComponentLink2Description: Datasheet; ComponentLink2URL: http://www.onsemi.com/pub_link/Collateral/NTMFS4C13N-D.PDF; ComponentLink3Description: Package Specification; ComponentLink3URL: http://www.onsemi.com/pub_link/Collateral/488AA.PDF
footprint ONSC-DFN-5-488AA_V (DFN, 5-Leads, Body 5.9x4.9mm, Pitch 1.27mm)
pins: 1 S, 2 S, 3 S, 4 G, 5 D
text: 1, 2, 3

## NTMFS4C13NT3G
designator Q?
Power MOSFET, 30 V, 38 A, Single N-Channel, 5-Pin DFN, Pb-Free, Tape and Reel; Manufacturer: On Semiconductor; PartNumber: NTMFS4C13NT3G; Channel Polarity: N Channel; Ciss Typ (pF): 770; Coss Typ (pF): 443; Crss Typ (pF): 127; ID Max (A): 38; Qrr Typ (nC): 9.7; V(BR)DSS Min (V): 30; VGS Max (V): 20; VGS(th) Max (V): 2.1; DatasheetVersion: Rev. 1; PackageVersion: Rev. H, 03/2013; PackageReference: DFN-5-488AA; PackageDescription: 5-Pin Small Outline No-Lead, Body 4.9 x 5.9 mm, Pitch 1.27 mm; Configuration: Single; Package Type: SO-8FL; Packing: Tape and Reel; RoHS: Pb-Free; Mounting Technology: Surface Mount; Code_JEDEC: MO-240A; ComponentLink1Description: Manufacturer URL; ComponentLink1URL: http://www.onsemi.com/; ComponentLink2Description: Datasheet; ComponentLink2URL: http://www.onsemi.com/pub_link/Collateral/NTMFS4C13N-D.PDF; ComponentLink3Description: Package Specification; ComponentLink3URL: http://www.onsemi.com/pub_link/Collateral/488AA.PDF
footprint ONSC-DFN-5-488AA_V (DFN, 5-Leads, Body 5.9x4.9mm, Pitch 1.27mm)
pins: 1 S, 2 S, 3 S, 4 G, 5 D
text: 1, 2, 3

## NTMFS4C35NT1G
designator Q?
Power MOSFET, 30 V, 80 A, Single N-Channel, 5-Pin DFN, Pb-Free, Tape and Reel; Manufacturer: On Semiconductor; PartNumber: NTMFS4C35NT1G; Channel Polarity: N Channel; Ciss Typ (pF): 2300; Coss Typ (pF): 1097; Crss Typ (pF): 46; ID Max (A): 80; Qrr Typ (nC): 30; VGS Max (V): 20; VGS(th) Max (V): 2.2; DatasheetVersion: Rev. 0; PackageVersion: Rev. H, 03/2013; PackageReference: DFN-5-488AA; PackageDescription: 5-Pin Small Outline No-Lead, Body 4.9 x 5.9 mm, Pitch 1.27 mm; Supplier 1: Newark; Supplier Part Number 1: 11X3687; Supplier 2: Mouser; Supplier Part Number 2: 863-NTMFS4C35NT1G; Configuration: Single; Package Type: SO-8FL / DFN-5; Packing: Tape and Reel; RoHS: Pb-Free; V(BR)DSS Min (V): 30; Mounting Technology: Surface Mount; Code_JEDEC: MO-240A; ComponentLink1Description: Manufacturer URL; ComponentLink1URL: http://www.onsemi.com/; ComponentLink2Description: Datasheet; ComponentLink2URL: http://www.onsemi.com/pub_link/Collateral/NTMFS4C35N-D.PDF; ComponentLink3Description: Package Specification; ComponentLink3URL: http://www.onsemi.com/pub_link/Collateral/488AA.PDF
footprint ONSC-DFN-5-488AA_V (DFN, 5-Leads, Body 5.9x4.9mm, Pitch 1.27mm)
pins: 1 S, 2 S, 3 S, 4 G, 5 D
text: 1, 2, 3

## NTMFS4C35NT3G
designator Q?
Power MOSFET, 30 V, 80 A, Single N-Channel, 5-Pin DFN, Pb-Free, Tape and Reel; Manufacturer: On Semiconductor; PartNumber: NTMFS4C35NT3G; Channel Polarity: N Channel; Ciss Typ (pF): 2300; Coss Typ (pF): 1097; Crss Typ (pF): 46; ID Max (A): 80; Qrr Typ (nC): 30; VGS Max (V): 20; VGS(th) Max (V): 2.2; DatasheetVersion: Rev. 0; PackageVersion: Rev. H, 03/2013; PackageReference: DFN-5-488AA; PackageDescription: 5-Pin Small Outline No-Lead, Body 4.9 x 5.9 mm, Pitch 1.27 mm; Supplier 1: Newark; Supplier Part Number 1: 11X3688; Supplier 2: Mouser; Supplier Part Number 2: 863-NTMFS4C35NT3G; Configuration: Single; Package Type: SO-8FL / DFN-5; Packing: Tape and Reel; RoHS: Pb-Free; V(BR)DSS Min (V): 30; Mounting Technology: Surface Mount; Code_JEDEC: MO-240A; ComponentLink1Description: Manufacturer URL; ComponentLink1URL: http://www.onsemi.com/; ComponentLink2Description: Datasheet; ComponentLink2URL: http://www.onsemi.com/pub_link/Collateral/NTMFS4C35N-D.PDF; ComponentLink3Description: Package Specification; ComponentLink3URL: http://www.onsemi.com/pub_link/Collateral/488AA.PDF
footprint ONSC-DFN-5-488AA_V (DFN, 5-Leads, Body 5.9x4.9mm, Pitch 1.27mm)
pins: 1 S, 2 S, 3 S, 4 G, 5 D
text: 1, 2, 3

## NTMFS4821NT1G
designator Q?
Power MOSFET, 30 V, 58.5 A, Single N-Channel, 5-Pin DFN, Pb-Free, Tape and Reel; Manufacturer: On Semiconductor; PartNumber: NTMFS4821NT1G; Channel Polarity: N Channel; Ciss Typ (pF): 1400; Coss Typ (pF): 282; Crss Typ (pF): 136; ID Max (A): 58.5; Qrr Typ (nC): 2; V(BR)DSS Min (V): 30; VGS Max (V): 20; VGS(th) Max (V): 2.5; DatasheetVersion: Rev. 4; PackageVersion: Rev. H, 03/2013; PackageReference: DFN-5-488AA; PackageDescription: 5-Pin Small Outline No-Lead, Body 4.9 x 5.9 mm, Pitch 1.27 mm; Configuration: Single; Package Type: SO-8FL / DFN-5; Packing: Tape and Reel; RoHS: Pb-Free; Mounting Technology: Surface Mount; Code_JEDEC: MO-240A; ComponentLink1Description: Manufacturer URL; ComponentLink1URL: http://www.onsemi.com/; ComponentLink2Description: Datasheet; ComponentLink2URL: http://www.onsemi.com/pub_link/Collateral/NTMFS4821N-D.PDF; ComponentLink3Description: Package Specification; ComponentLink3URL: http://www.onsemi.com/pub_link/Collateral/488AA.PDF
footprint ONSC-DFN-5-488AA_V (DFN, 5-Leads, Body 5.9x4.9mm, Pitch 1.27mm)
pins: 1 S, 2 S, 3 S, 4 G, 5 D
text: 1, 2, 3

## NTMFS4821NT3G
designator Q?
Power MOSFET, 30 V, 58.5 A, Single N-Channel, 5-Pin DFN, Pb-Free, Tape and Reel; Manufacturer: On Semiconductor; PartNumber: NTMFS4821NT3G; Channel Polarity: N Channel; Ciss Typ (pF): 1400; Coss Typ (pF): 282; Crss Typ (pF): 136; ID Max (A): 58.5; Qrr Typ (nC): 2; V(BR)DSS Min (V): 30; VGS Max (V): 20; VGS(th) Max (V): 2.5; DatasheetVersion: Rev. 4; PackageVersion: Rev. H, 03/2013; PackageReference: DFN-5-488AA; PackageDescription: 5-Pin Small Outline No-Lead, Body 4.9 x 5.9 mm, Pitch 1.27 mm; Configuration: Single; Package Type: SO-8FL / DFN-5; Packing: Tape and Reel; RoHS: Pb-Free; Mounting Technology: Surface Mount; Code_JEDEC: MO-240A; ComponentLink1Description: Manufacturer URL; ComponentLink1URL: http://www.onsemi.com/; ComponentLink2Description: Datasheet; ComponentLink2URL: http://www.onsemi.com/pub_link/Collateral/NTMFS4821N-D.PDF; ComponentLink3Description: Package Specification; ComponentLink3URL: http://www.onsemi.com/pub_link/Collateral/488AA.PDF
footprint ONSC-DFN-5-488AA_V (DFN, 5-Leads, Body 5.9x4.9mm, Pitch 1.27mm)
pins: 1 S, 2 S, 3 S, 4 G, 5 D
text: 1, 2, 3

## NTMFS4823NT1G
designator Q?
Power MOSFET, 30 V, 30 A, Single N-Channel, 5-Pin DFN, Pb-Free, Tape and Reel; Manufacturer: On Semiconductor; PartNumber: NTMFS4823NT1G; Channel Polarity: N Channel; Ciss Typ (pF): 795; Coss Typ (pF): 163; Crss Typ (pF): 85; ID Max (A): 30; Qrr Typ (nC): 0.6; VGS Max (V): 20; VGS(th) Max (V): 2.5; DatasheetVersion: Rev. 3; PackageVersion: Rev. H, 03/2013; PackageReference: DFN-5-488AA; PackageDescription: 5-Pin Small Outline No-Lead, Body 4.9 x 5.9 mm, Pitch 1.27 mm; Configuration: Single; Package Type: SO-8FL / DFN-5; Packing: Tape and Reel; RoHS: Pb-Free; V(BR)DSS Min (V): 30; Mounting Technology: Surface Mount; Code_JEDEC: MO-240A; ComponentLink1Description: Manufacturer URL; ComponentLink1URL: http://www.onsemi.com/; ComponentLink2Description: Datasheet; ComponentLink2URL: http://www.onsemi.com/pub_link/Collateral/NTMFS4823N-D.PDF; ComponentLink3Description: Package Specification; ComponentLink3URL: http://www.onsemi.com/pub_link/Collateral/488AA.PDF
footprint ONSC-DFN-5-488AA_V (DFN, 5-Leads, Body 5.9x4.9mm, Pitch 1.27mm)
pins: 1 S, 2 S, 3 S, 4 G, 5 D
text: 1, 2, 3

## NTMFS4823NT3G
designator Q?
Power MOSFET, 30 V, 30 A, Single N-Channel, 5-Pin DFN, Pb-Free, Tape and Reel; Manufacturer: On Semiconductor; PartNumber: NTMFS4823NT3G; Channel Polarity: N Channel; Ciss Typ (pF): 795; Coss Typ (pF): 163; Crss Typ (pF): 85; ID Max (A): 30; Qrr Typ (nC): 0.6; VGS Max (V): 20; VGS(th) Max (V): 2.5; DatasheetVersion: Rev. 3; PackageVersion: Rev. H, 03/2013; PackageReference: DFN-5-488AA; PackageDescription: 5-Pin Small Outline No-Lead, Body 4.9 x 5.9 mm, Pitch 1.27 mm; Configuration: Single; Package Type: SO-8FL / DFN-5; Packing: Tape and Reel; RoHS: Pb-Free; V(BR)DSS Min (V): 30; Mounting Technology: Surface Mount; Code_JEDEC: MO-240A; ComponentLink1Description: Manufacturer URL; ComponentLink1URL: http://www.onsemi.com/; ComponentLink2Description: Datasheet; ComponentLink2URL: http://www.onsemi.com/pub_link/Collateral/NTMFS4823N-D.PDF; ComponentLink3Description: Package Specification; ComponentLink3URL: http://www.onsemi.com/pub_link/Collateral/488AA.PDF
footprint ONSC-DFN-5-488AA_V (DFN, 5-Leads, Body 5.9x4.9mm, Pitch 1.27mm)
pins: 1 S, 2 S, 3 S, 4 G, 5 D
text: 1, 2, 3

## NTMFS4825NFET1G
designator Q?
Power MOSFET, 30 V, 171 A, Single N-Channel, 5-Pin DFN, Pb-Free, Tape and Reel; Manufacturer: On Semiconductor; PartNumber: NTMFS4825NFET1G; Channel Polarity: N Channel; Ciss Typ (pF): 5660; Coss Typ (pF): 1150; Crss Typ (pF): 495; Qrr Typ (nC): 34; V(BR)DSS Min (V): 30; VGS Max (V): 20; VGS(th) Max (V): 2.5; DatasheetVersion: Rev. 1; PackageVersion: Rev. H, 03/2013; PackageReference: DFN-5-488AA; PackageDescription: 5-Pin Small Outline No-Lead, Body 4.9 x 5.9 mm, Pitch 1.27 mm; Configuration: Single; Package Type: SO-8FL / DFN-5; Packing: Tape and Reel; RoHS: Pb-Free; Mounting Technology: Surface Mount; Code_JEDEC: MO-240A; ComponentLink1Description: Manufacturer URL; ComponentLink1URL: http://www.onsemi.com/; ComponentLink2Description: Datasheet; ComponentLink2URL: http://www.onsemi.com/pub_link/Collateral/NTMFS4825NFE-D.PDF; ComponentLink3Description: Package Specification; ComponentLink3URL: http://www.onsemi.com/pub_link/Collateral/488AA.PDF
footprint ONSC-DFN-5-488AA_V (DFN, 5-Leads, Body 5.9x4.9mm, Pitch 1.27mm)
pins: 1 S, 2 S, 3 S, 4 G, 5 D
text: 1, 2, 3

## NTMFS4833NST1G
designator U?
SENSEFET(R) Power MOSFET, 30 V, 156 A, Single N-Channel, 8-Pin DFN, Pb-Free, Tape and Reel; Manufacturer: On Semiconductor; PartNumber: NTMFS4833NST1G; Channel Polarity: N Channel; Ciss Typ (pF): 5250; Coss Typ (pF): 1080; Crss Typ (pF): 500; Qrr Typ (nC): 32; V(BR)DSS Min (V): 30; VGS Max (V): 20; VGS(th) Max (V): 2.5; DatasheetVersion: Rev. 1; PackageVersion: Rev. C, 04/2012; PackageReference: DFN-8-506BQ; PackageDescription: 8-Pin Small Outline No-Lead, Body 5.8 x 4.8 mm, Pitch 1.27 mm; Configuration: Single; Package Type: SO-8FL / DFN-8; Packing: Tape and Reel; RoHS: Pb-Free; Mounting Technology: Surface Mount; ComponentLink1Description: Manufacturer URL; ComponentLink1URL: http://www.onsemi.com/; ComponentLink2Description: Datasheet; ComponentLink2URL: http://www.onsemi.com/pub_link/Collateral/NTMFS4833NS-D.PDF; ComponentLink3Description: Package Specification; ComponentLink3URL: http://www.onsemi.com/pub_link/Collateral/506BQ.PDF
footprint ONSC-DFN-8-506BQ_V (SON, 8-Leads, Body 6.15x5.15mm, Pitch 1.27mm, Thermal Pad 4.56x3.7mm)
pins: 1 S, 2 S, 3 S, 4 G, 5 K1, 6 KELVIN, 7 SENSE, 8 NC, 9 D

## NTMFS4833NST3G
designator U?
SENSEFET(R) Power MOSFET, 30 V, 156 A, Single N-Channel, 8-Pin DFN, Pb-Free, Tape and Reel; Manufacturer: On Semiconductor; PartNumber: NTMFS4833NST3G; Channel Polarity: N Channel; Ciss Typ (pF): 5250; Coss Typ (pF): 1080; Crss Typ (pF): 500; Qrr Typ (nC): 32; V(BR)DSS Min (V): 30; VGS Max (V): 20; VGS(th) Max (V): 2.5; DatasheetVersion: Rev. 1; PackageVersion: Rev. C, 04/2012; PackageReference: DFN-8-506BQ; PackageDescription: 8-Pin Small Outline No-Lead, Body 5.8 x 4.8 mm, Pitch 1.27 mm; Configuration: Single; Package Type: SO-8FL / DFN-8; Packing: Tape and Reel; RoHS: Pb-Free; Mounting Technology: Surface Mount; ComponentLink1Description: Manufacturer URL; ComponentLink1URL: http://www.onsemi.com/; ComponentLink2Description: Datasheet; ComponentLink2URL: http://www.onsemi.com/pub_link/Collateral/NTMFS4833NS-D.PDF; ComponentLink3Description: Package Specification; ComponentLink3URL: http://www.onsemi.com/pub_link/Collateral/506BQ.PDF
footprint ONSC-DFN-8-506BQ_V (SON, 8-Leads, Body 6.15x5.15mm, Pitch 1.27mm, Thermal Pad 4.56x3.7mm)
pins: 1 S, 2 S, 3 S, 4 G, 5 K1, 6 KELVIN, 7 SENSE, 8 NC, 9 D

## NTMFS4833NT1G
designator Q?
Power MOSFET, 30 V, 191 A, Single N-Channel, 5-Pin DFN, Pb-Free, Tape and Reel; Manufacturer: On Semiconductor; PartNumber: NTMFS4833NT1G; Channel Polarity: N Channel; Ciss Typ (pF): 5600; Coss Typ (pF): 1200; Crss Typ (pF): 650; ID Max (A): 191; Qrr Typ (nC): 36; V(BR)DSS Min (V): 30; VGS Max (V): 20; VGS(th) Max (V): 2.5; DatasheetVersion: Rev. 9; PackageVersion: Rev. H, 03/2013; PackageReference: DFN-5-488AA; PackageDescription: 5-Pin Small Outline No-Lead, Body 4.9 x 5.9 mm, Pitch 1.27 mm; Configuration: Single; Package Type: SO-8FL / DFN-5; Packing: Tape and Reel; RoHS: Pb-Free; Mounting Technology: Surface Mount; Code_JEDEC: MO-240A; ComponentLink1Description: Manufacturer URL; ComponentLink1URL: http://www.onsemi.com/; ComponentLink2Description: Datasheet; ComponentLink2URL: http://www.onsemi.com/pub_link/Collateral/NTMFS4833N.PDF; ComponentLink3Description: Package Specification; ComponentLink3URL: http://www.onsemi.com/pub_link/Collateral/488AA.PDF
footprint ONSC-DFN-5-488AA_V (DFN, 5-Leads, Body 5.9x4.9mm, Pitch 1.27mm)
pins: 1 S, 2 S, 3 S, 4 G, 5 D
text: 1, 2, 3

## NTMFS4833NT3G
designator Q?
Power MOSFET, 30 V, 191 A, Single N-Channel, 5-Pin DFN, Pb-Free, Tape and Reel; Manufacturer: On Semiconductor; PartNumber: NTMFS4833NT3G; Channel Polarity: N Channel; Ciss Typ (pF): 5600; Coss Typ (pF): 1200; Crss Typ (pF): 650; ID Max (A): 191; Qrr Typ (nC): 36; V(BR)DSS Min (V): 30; VGS Max (V): 20; VGS(th) Max (V): 2.5; DatasheetVersion: Rev. 9; PackageVersion: Rev. H, 03/2013; PackageReference: DFN-5-488AA; PackageDescription: 5-Pin Small Outline No-Lead, Body 4.9 x 5.9 mm, Pitch 1.27 mm; Configuration: Single; Package Type: SO-8FL / DFN-5; Packing: Tape and Reel; RoHS: Pb-Free; Mounting Technology: Surface Mount; Code_JEDEC: MO-240A; ComponentLink1Description: Manufacturer URL; ComponentLink1URL: http://www.onsemi.com/; ComponentLink2Description: Datasheet; ComponentLink2URL: http://www.onsemi.com/pub_link/Collateral/NTMFS4833N.PDF; ComponentLink3Description: Package Specification; ComponentLink3URL: http://www.onsemi.com/pub_link/Collateral/488AA.PDF
footprint ONSC-DFN-5-488AA_V (DFN, 5-Leads, Body 5.9x4.9mm, Pitch 1.27mm)
pins: 1 S, 2 S, 3 S, 4 G, 5 D
text: 1, 2, 3

## NTMFS4834NT1G
designator Q?
Power MOSFET, 30 V, 130 A, Single N-Channel, 5-Pin DFN, Pb-Free, Tape and Reel; Manufacturer: On Semiconductor; PartNumber: NTMFS4834NT1G; Channel Polarity: N Channel; Ciss Typ (pF): 4500; Coss Typ (pF): 960; Crss Typ (pF): 500; ID Max (A): 130; Qrr Typ (nC): 25.9; V(BR)DSS Min (V): 30; VGS Max (V): 20; VGS(th) Max (V): 2.5; DatasheetVersion: Rev. 6; PackageVersion: Rev. H, 03/2013; PackageReference: DFN-5-488AA; PackageDescription: 5-Pin Small Outline No-Lead, Body 4.9 x 5.9 mm, Pitch 1.27 mm; Configuration: Single; Package Type: WDFN-8; Packing: Tape and Reel; RoHS: Pb-Free; Mounting Technology: Surface Mount; Code_JEDEC: MO-240A; ComponentLink1Description: Manufacturer URL; ComponentLink1URL: http://www.onsemi.com/; ComponentLink2Description: Datasheet; ComponentLink2URL: http://www.onsemi.com/pub_link/Collateral/NTMFS4834N-D.PDF; ComponentLink3Description: Package Specification; ComponentLink3URL: http://www.onsemi.com/pub_link/Collateral/488AA.PDF
footprint ONSC-DFN-5-488AA_V (DFN, 5-Leads, Body 5.9x4.9mm, Pitch 1.27mm)
pins: 1 S, 2 S, 3 S, 4 G, 5 D
text: 1, 2, 3

## NTMFS4834NT3G
designator Q?
Power MOSFET, 30 V, 130 A, Single N-Channel, 5-Pin DFN, Pb-Free, Tape and Reel; Manufacturer: On Semiconductor; PartNumber: NTMFS4834NT3G; Channel Polarity: N Channel; Ciss Typ (pF): 4500; Coss Typ (pF): 960; Crss Typ (pF): 500; ID Max (A): 130; Qrr Typ (nC): 25.9; V(BR)DSS Min (V): 30; VGS Max (V): 20; VGS(th) Max (V): 2.5; DatasheetVersion: Rev. 6; PackageVersion: Rev. H, 03/2013; PackageReference: DFN-5-488AA; PackageDescription: 5-Pin Small Outline No-Lead, Body 4.9 x 5.9 mm, Pitch 1.27 mm; Configuration: Single; Package Type: WDFN-8; Packing: Tape and Reel; RoHS: Pb-Free; Mounting Technology: Surface Mount; Code_JEDEC: MO-240A; ComponentLink1Description: Manufacturer URL; ComponentLink1URL: http://www.onsemi.com/; ComponentLink2Description: Datasheet; ComponentLink2URL: http://www.onsemi.com/pub_link/Collateral/NTMFS4834N-D.PDF; ComponentLink3Description: Package Specification; ComponentLink3URL: http://www.onsemi.com/pub_link/Collateral/488AA.PDF
footprint ONSC-DFN-5-488AA_V (DFN, 5-Leads, Body 5.9x4.9mm, Pitch 1.27mm)
pins: 1 S, 2 S, 3 S, 4 G, 5 D
text: 1, 2, 3

## NTMFS4835NT1G
designator Q?
Power MOSFET, 30 V, 104 A, Single N-Channel, 5-Pin DFN, Pb-Free, Tape and Reel; Manufacturer: On Semiconductor; PartNumber: NTMFS4835NT1G; Channel Polarity: N Channel; Ciss Typ (pF): 3100; Coss Typ (pF): 670; Crss Typ (pF): 360; ID Max (A): 104; Qrr Typ (nC): 18; V(BR)DSS Min (V): 30; VGS Max (V): 20; VGS(th) Max (V): 2.5; DatasheetVersion: Rev. 7; PackageVersion: Rev. H, 03/2013; PackageReference: DFN-5-488AA; PackageDescription: 5-Pin Small Outline No-Lead, Body 4.9 x 5.9 mm, Pitch 1.27 mm; Configuration: Single; Package Type: WDFN-8; Packing: Tape and Reel; RoHS: Pb-Free; Mounting Technology: Surface Mount; Code_JEDEC: MO-240A; ComponentLink1Description: Manufacturer URL; ComponentLink1URL: http://www.onsemi.com/; ComponentLink2Description: Datasheet; ComponentLink2URL: http://www.onsemi.com/pub_link/Collateral/NTMFS4835N-D.PDF; ComponentLink3Description: Package Specification; ComponentLink3URL: http://www.onsemi.com/pub_link/Collateral/488AA.PDF
footprint ONSC-DFN-5-488AA_V (DFN, 5-Leads, Body 5.9x4.9mm, Pitch 1.27mm)
pins: 1 S, 2 S, 3 S, 4 G, 5 D
text: 1, 2, 3